# EAGLE library part MCP2200 (library untitled)
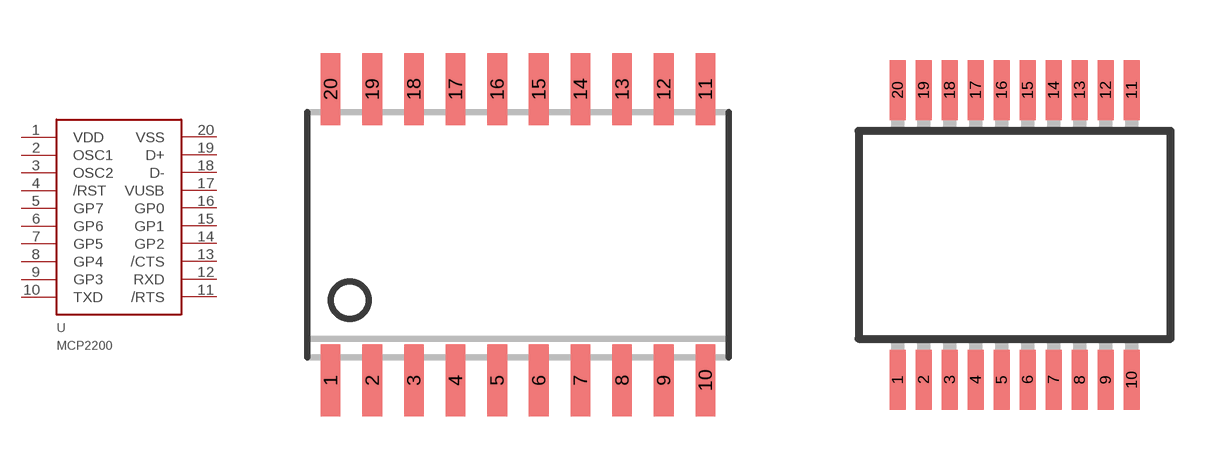
[diagram p36: symbol with the pads of SOIC20; footprints SOIC20, SSOP20]

Designator prefix -

## MCP2200SO  [SOIC20]
1  VDD
2  OSC1
3  OSC2
4  /RST
5  GP7
6  GP6
7  GP5
8  GP4
9  GP3
10  TXD
11  /RTS
12  RXD
13  /CTS
14  GP2
15  GP1
16  GP0
17  VUSB
18  D-
19  D+
20  VSS

## MCP2200SS  [SSOP20]
Pads as for SOIC20

## MCP2200MQ  [QFN25_5X5]
1  /RST
2  GP7
3  GP6
4  GP5
5  GP4
6  GP3
7  TXD
8  /RTS
9  RXD
10  /CTS
11  GP2
12  GP1
13  GP0
14  VUSB
15  D-
16  D+
17  VSS
18  VDD
19  OSC1
20  OSC2

## Footprint SOIC20 (pad centres in mm)
smd 0.6 x 2.2: 1 -5.715,-4.445; 2 -4.445,-4.445; 3 -3.175,-4.445; 4 -1.905,-4.445; 5 -0.635,-4.445; 6 0.635,-4.445; 7 1.905,-4.445; 8 3.175,-4.445; 9 4.445,-4.445; 10 5.715,-4.445; 11 5.715,4.445; 12 4.445,4.445; 13 3.175,4.445; 14 1.905,4.445; 15 0.635,4.445; 16 -0.635,4.445; 17 -1.905,4.445; 18 -3.175,4.445; 19 -4.445,4.445; 20 -5.715,4.445

## Footprint SSOP20 (pad centres in mm)
smd 0.4 x 1.5: 1 -2.925,-3.625; 2 -2.275,-3.625; 3 -1.625,-3.625; 4 -0.975,-3.625; 5 -0.325,-3.625; 6 0.325,-3.625; 7 0.975,-3.625; 8 1.625,-3.625; 9 2.275,-3.625; 10 2.925,-3.625; 11 2.925,3.625; 12 2.275,3.625; 13 1.625,3.625; 14 0.975,3.625; 15 0.325,3.625; 16 -0.325,3.625; 17 -0.975,3.625; 18 -1.625,3.625; 19 -2.275,3.625; 20 -2.925,3.625

## Footprint QFN25_5X5 (pad centres in mm)
smd 0.55 x 0.4: 1 -2.275,1.3; 2 -2.275,0.65; 3 -2.275,0; 4 -2.275,-0.65; 5 -2.275,-1.3; 11 2.275,-1.3; 12 2.275,-0.65; 13 2.275,0; 14 2.275,0.65; 15 2.275,1.3
smd 0.4 x 0.55: 6 -1.3,-2.275; 7 -0.65,-2.275; 8 0,-2.275; 9 0.65,-2.275; 10 1.3,-2.275; 16 1.3,2.275; 17 0.65,2.275; 18 0,2.275; 19 -0.65,2.275; 20 -1.3,2.275